# EAGLE library part 615006143621 (library EagleLibrary_Wuerth_Elektronik_eiCan_Communication_Connectors_v6_20150113)
WR-MJ Horizontal Plastic 6P6C Modular Jack Tab Down, 6 Pins=>Code : Con_I-O_MJ-H_Plastic_Down_615006143621 <http://katalog.we-online.de/media/images/eican/Con_I-O_MJ-H_Plastic_Down_615006143621_pf2.jpg> Details see: http://katalog.we-online.de/en/em/615_006_143_621 Created 2014-07-10, Karrer Zheng 2014 (C) Würth Elektronik
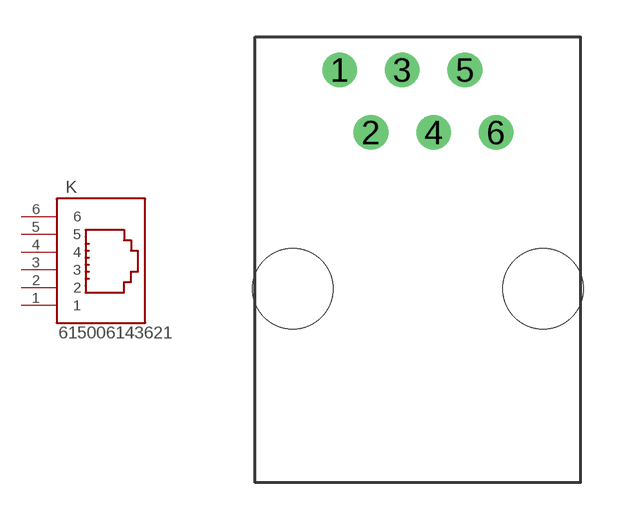
[diagram p102: symbol with the pads of 615006143621; footprint 615006143621]

Designator prefix K

## 615006143621  [615006143621]
1  1  pas
2  2  pas
3  3  pas
4  4  pas
5  5  pas
6  6  pas

## Footprint 615006143621 (pad centres in mm)
WR-MJ Horizontal Plastic 6P6C Modular Jack Tab Down, 6 Pins
drill 0.9: 1 -3.175,8.89; 2 -1.905,6.35; 3 -0.635,8.89; 4 0.635,6.35; 5 1.905,8.89; 6 3.175,6.35
hole 3.25 at -5.08,0
hole 3.25 at 5.08,0